# EAGLE library part AD7942 (library kblom)
14-Bit, 250 kSPS PulSAR, Pseudo Differential ADC Applications: Battery-powered equipment Data acquisition Instrumentation Medical instruments Process controls source <http://www.analog.com/static/imported-files/data_sheets/AD7942.pdf> adc
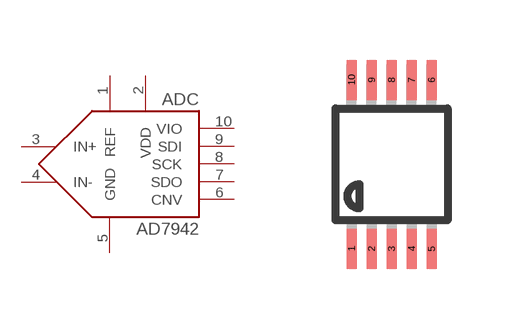
[diagram p3: symbol with the pads of MSOP10; footprint MSOP10]

Designator prefix ADC

## AD7942 (FARNELL: 1117894)  [MSOP10]
1  REF
2  VDD
3  IN+
4  IN-
5  GND
6  CNV
7  SDO
8  SCK
9  SDI
10  VIO

## Footprint MSOP10 (pad centres in mm)
10-Lead Mini Small Outline Package [MSOP] (RM-10) Source: http://www.analog.com/UploadedFiles/Data_Sheets/35641221898805SSM2167_b.pdf COMPLIANT TO JEDEC STANDARDS MO-187BA
smd 0.25 x 1: 1 -1,-2.113; 2 -0.5,-2.113; 3 0,-2.113; 4 0.5,-2.113; 5 1,-2.113; 6 1,2.113; 7 0.5,2.113; 8 0,2.113; 9 -0.5,2.113; 10 -1,2.113